# Altium schematic symbol library IC.Logic.SchLib: 11 symbols
Pins are listed as number, name and electrical type; pins without a type are passive.

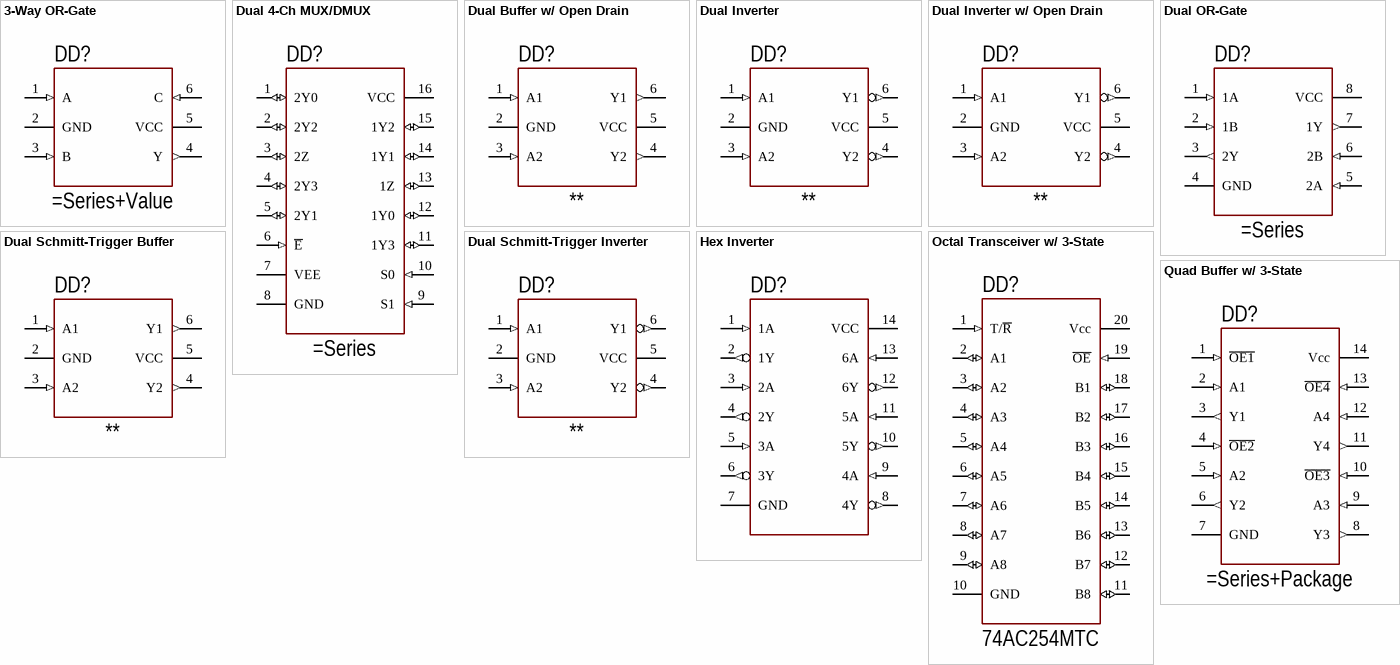
[diagram p0: symbols 3-Way OR-Gate to Quad Buffer w/ 3-State]

## 3-Way OR-Gate
designator DD?
3-Way OR-Gate
pins: 1 A (in), 2 GND, 3 B (in), 4 Y (out), 5 VCC (power), 6 C (in)

## Dual 4-Ch MUX/DMUX
designator DD?
Dual 4-Channel MUX/DMUX Schematic Symbol
pins: 1 2Y0 (io), 2 2Y2 (io), 3 2Z (io), 4 2Y3 (io), 5 2Y1 (io), 6 ~{E} (in), 7 VEE, 8 GND, 9 S1 (in), 10 S0 (in), 11 1Y3 (io), 12 1Y0 (io), 13 1Z (io), 14 1Y1 (io), 15 1Y2 (io), 16 VCC

## Dual Buffer w/ Open Drain
designator DD?, comment **
Dual Buffer Gate with Open Drain Outputs; Series: *; Package: *
pins: 1 A1 (in), 2 GND, 3 A2 (in), 4 Y2 (out), 5 VCC (power), 6 Y1 (out)

## Dual Inverter
designator DD?, comment **
Dual Inverter Gate; Series: *; Package: *
footprint SOT23-6 (SOT-23, 6-Leads, Body 2.90x2.80mm, Pitch 0.95mm, IPC Medium Density)
footprint SC70-6 (SC70, 6-Leads, Body 2.00x1.25mm, Pitch 0.65mm, IPC Medium Density)
pins: 1 A1 (in), 2 GND, 3 A2 (in), 4 Y2 (out), 5 VCC (power), 6 Y1 (out)

## Dual Inverter w/ Open Drain
designator DD?, comment **
Dual Inverter Gate with Open Drain Outputs; Series: *; Package: *
footprint SOT23-6 (SOT-23, 6-Leads, Body 2.90x2.80mm, Pitch 0.95mm, IPC Medium Density)
footprint SC70-6 (SC70, 6-Leads, Body 2.00x1.25mm, Pitch 0.65mm, IPC Medium Density)
pins: 1 A1 (in), 2 GND, 3 A2 (in), 4 Y2 (out), 5 VCC (power), 6 Y1 (out)

## Dual OR-Gate
designator DD?
Dual OR-Gate
pins: 1 1A (in), 2 1B (in), 3 2Y (out), 4 GND, 5 2A (in), 6 2B (in), 7 1Y (out), 8 VCC

## Dual Schmitt-Trigger Buffer
designator DD?, comment **
Dual Schmitt-Trigger Buffer Gate; Series: *; Package: *
pins: 1 A1 (in), 2 GND, 3 A2 (in), 4 Y2 (out), 5 VCC (power), 6 Y1 (out)

## Dual Schmitt-Trigger Inverter
designator DD?, comment **
Dual Schmitt-Trigger Buffer Gate; Series: *; Package: *
pins: 1 A1 (in), 2 GND, 3 A2 (in), 4 Y2 (out), 5 VCC (power), 6 Y1 (out)

## Hex Inverter
designator DD?
Hex Inverter Gate
footprint SOIC-14_8.70x3.90mm (SOIC 14-Leads, Body 8.70x3.90mm, Pitch 1.27mm, IPC Medium Density)
pins: 1 1A (in), 2 1Y (out), 3 2A (in), 4 2Y (out), 5 3A (in), 6 3Y (out), 7 GND, 8 4Y (out), 9 4A (in), 10 5Y (out), 11 5A (in), 12 6Y (out), 13 6A (in), 14 VCC (power)

## Octal Transceiver w/ 3-State
designator DD?, comment 74AC254MTC
Octal Bidirectional Transceiver with 3-State Inputs/Outputs; Series: 74AC254; Package: MTC
footprint TSSOP-20_6.50x4.40mm (TSOP, 20-Leads, Body 6.50x4.40mm, Pitch 0.65mm, IPC Medium Density)
footprint SOIC-20_12.80x7.50mm (SOIC, 20-Leads, Body 12.80x7.50mm, Pitch 1.27mm, IPC Medium Density)
pins: 1 T/~{R} (in), 2 A1 (io), 3 A2 (io), 4 A3 (io), 5 A4 (io), 6 A5 (io), 7 A6 (io), 8 A7 (io), 9 A8 (io), 10 GND, 11 B8 (io), 12 B7 (io), 13 B6 (io), 14 B5 (io), 15 B4 (io), 16 B3 (io), 17 B2 (io), 18 B1 (io), 19 ~{OE} (in), 20 Vcc (power)

## Quad Buffer w/ 3-State
designator DD?
Quad 3-state Buffer with Low Enable
footprint SOIC-14_8.70x3.90mm (SOIC 14-Leads, Body 8.70x3.90mm, Pitch 1.27mm, IPC Medium Density)
pins: 1 ~{OE1} (in), 2 A1 (in), 3 Y1 (out), 4 ~{OE2} (in), 5 A2 (in), 6 Y2 (out), 7 GND, 8 Y3 (out), 9 A3 (in), 10 ~{OE3} (in), 11 Y4 (out), 12 A4 (in), 13 ~{OE4} (in), 14 Vcc (power)